# Altium integrated library Maxim Analog Filters.IntLib: 555 symbols (part 7 of 26)
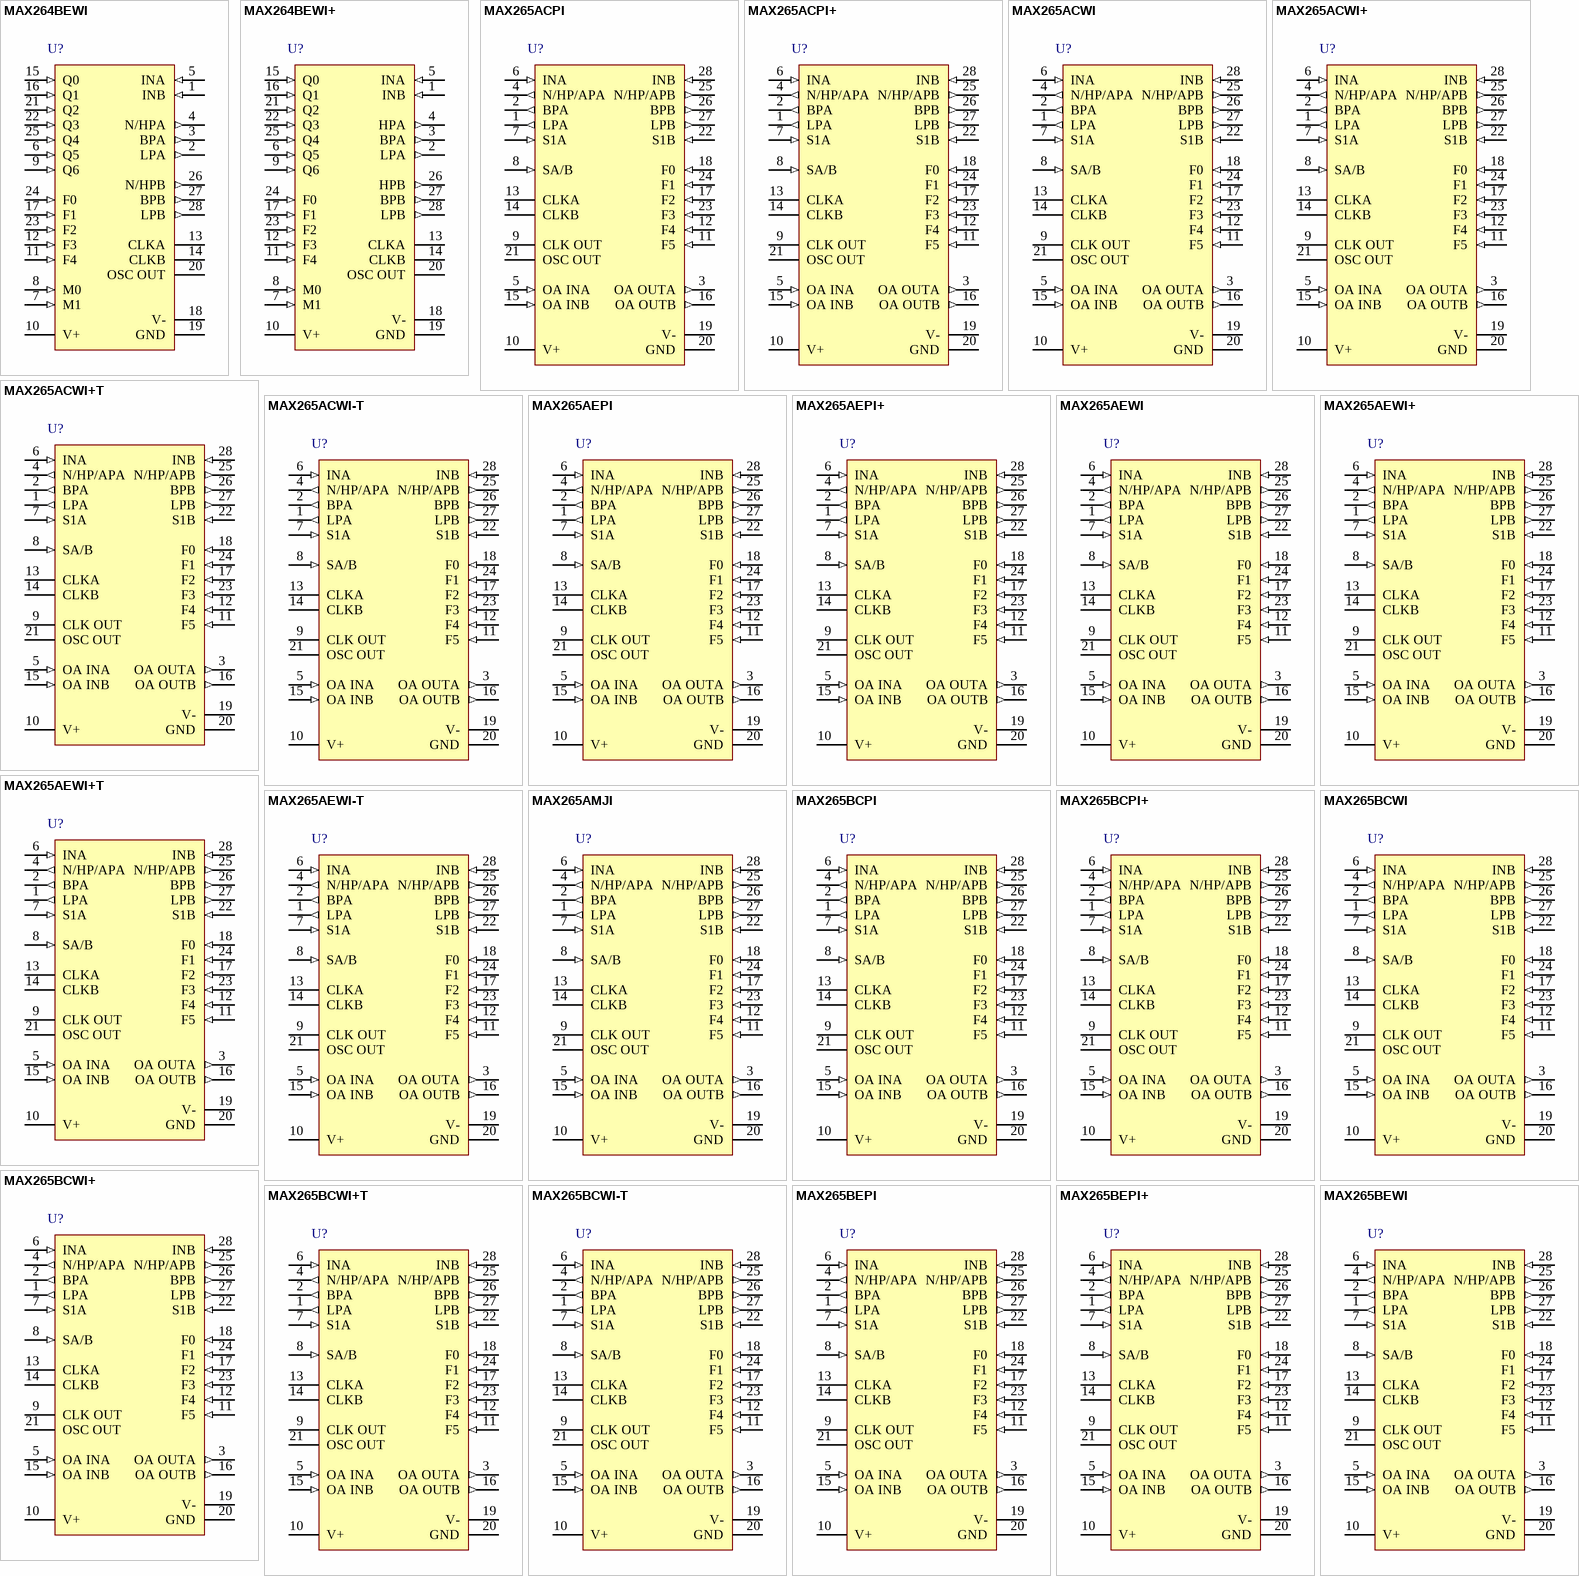
[diagram p23: symbols MAX264BEWI to MAX265BEWI]

## MAX265AEWI-T
designator U?
Switched Capacitor Filter, Pin Strap, Resistor Programmable, -40 to 85 degC, 28-Pin SOIC (W28-5), Tape and Reel; Generic Part Number: MAX265; PartNumber: MAX265AEWI-T; Filter Sections: 2; Filter Type: Universal; DatasheetVersion: Rev. 0; PackageVersion: Rev. F, 10/2012; PackageReference: W28-5; PackageDescription: 28-Pin Small-Outline IC, Wide (0.3in) (W28-5), Body 17.9 x 7.5 mm, Pitch 1.27 mm; Supplier 1: Mouser; Supplier Part Number 1: N/A; Filter Characteristic: Programmable; Filter Class: Switched Cap; Order Per Filter Section: 2; Packing: Tape and Reel; Program Method: Pin Strap, Resistor; Mounting Technology: Surface Mount; Code_JEDEC: MS013; ComponentLink1Description: Manufacturer URL; ComponentLink1URL: http://www.maximintegrated.com/; ComponentLink2Description: Datasheet; ComponentLink2URL: http://datasheets.maximintegrated.com/en/ds/MAX265-MAX266.pdf; ComponentLink3Description: Package Specification; ComponentLink3URL: http://pdfserv.maximintegrated.com/package_dwgs/21-0042.PDF
footprint MAXM-W28-5_N (SOIC, 28-Leads, Body 17.9x7.5mm, Pitch 1.27mm, IPC Medium Density)
footprint MAXM-W28-5_L (SOIC, 28-Leads, Body 17.9x7.5mm, Pitch 1.27mm, IPC High Density)
footprint MAXM-W28-5_M (SOIC, 28-Leads, Body 17.9x7.5mm, Pitch 1.27mm, IPC Low Density)
pins: 1 LPA (out) "Lowpass outputs", 2 BPA (out) "Bandpass outputs", 3 OA OUTA (out) "Output of op amps A", 4 N/HP/APA (out), 5 OA INA (in) "Inverting input of op amps A", 6 INA (in) "Filter input", 7 S1A (in) "Auxiliary input to summing node in A filter. It receives feedback signals in various filter modes.", 8 SA/B (in) "When SA/B is high, one filter summing node is tied to the LP output. When SA/B is low, the summing node is grounded. See Mode diagrams (Figures 5-20) for SA/B connections.", 9 CLK OUT "Clock Output for crystal and R-C oscillator operation.", 10 V+ (power) "Positive supply voltage", 11 F5 (in) "Programming input for fCLK/f0 ratio", 12 F4 (in) "Programming input for fCLK/f0 ratio", 13 CLKA "Input to the oscillator and clock input to section A. This clock is internally divided by 2.", 14 CLKB "Clock input to filter B. This clock is internally divided by 2.", 15 OA INB (in) "Inverting input of op amps B", 16 OA OUTB (out) "Output of op amps B", 17 F2 (in) "Programming input for fCLK/f0 ratio", 18 F0 (in) "Programming input for fCLK/f0 ratio", 19 V- (power) "Negative supply voltage", 20 GND (power) "Analog Ground. Connect to the system ground for +/- supplies or to mid-supply for single supply operation. GND should be well bypassed in single supply applications.", 21 OSC OUT "Connects to crystal or R-C for self-clocked operation.", 22 S1B (in) "Auxiliary input to summing node in B filter. It receives feedback signals in various filter modes.", 23 F3 (in) "Programming input for fCLK/f0 ratio", 24 F1 (in) "Programming input for fCLK/f0 ratio", 25 N/HP/APB (out), 26 BPB (out) "Bandpass outputs", 27 LPB (out) "Lowpass outputs", 28 INB (in) "Filter input"

## MAX265AMJI
designator U?
Switched Capacitor Filter, Pin Strap, Resistor Programmable, -55 to 125 degC, 28-Pin DIP (J28-2); Generic Part Number: MAX265; PartNumber: MAX265AMJI; Filter Sections: 2; Filter Type: Universal; DatasheetVersion: Rev. 0; PackageVersion: Rev. B, 11/2009; PackageReference: J28-2; PackageDescription: 28-Pin Ceramic Dual-In-Line, Wide (0.6in) (J28-2), Body 37.85 x 14.225 mm, Pitch 2.54 mm; Supplier 1: Mouser; Supplier Part Number 1: N/A; Filter Characteristic: Programmable; Filter Class: Switched Cap; Order Per Filter Section: 2; Program Method: Pin Strap, Resistor; Mounting Technology: Through Hole; ComponentLink1Description: Manufacturer URL; ComponentLink1URL: http://www.maximintegrated.com/; ComponentLink2Description: Datasheet; ComponentLink2URL: http://datasheets.maximintegrated.com/en/ds/MAX265-MAX266.pdf; ComponentLink3Description: Package Specification; ComponentLink3URL: http://pdfserv.maximintegrated.com/package_dwgs/21-0046.PDF
footprint MAXM-J28-2 (DIP, 28-Leads, Body 37.85x14.225mm, Pitch 2.54mm)
pins: 1 LPA (out) "Lowpass outputs", 2 BPA (out) "Bandpass outputs", 3 OA OUTA (out) "Output of op amps A", 4 N/HP/APA (out), 5 OA INA (in) "Inverting input of op amps A", 6 INA (in) "Filter input", 7 S1A (in) "Auxiliary input to summing node in A filter. It receives feedback signals in various filter modes.", 8 SA/B (in) "When SA/B is high, one filter summing node is tied to the LP output. When SA/B is low, the summing node is grounded. See Mode diagrams (Figures 5-20) for SA/B connections.", 9 CLK OUT "Clock Output for crystal and R-C oscillator operation.", 10 V+ (power) "Positive supply voltage", 11 F5 (in) "Programming input for fCLK/f0 ratio", 12 F4 (in) "Programming input for fCLK/f0 ratio", 13 CLKA "Input to the oscillator and clock input to section A. This clock is internally divided by 2.", 14 CLKB "Clock input to filter B. This clock is internally divided by 2.", 15 OA INB (in) "Inverting input of op amps B", 16 OA OUTB (out) "Output of op amps B", 17 F2 (in) "Programming input for fCLK/f0 ratio", 18 F0 (in) "Programming input for fCLK/f0 ratio", 19 V- (power) "Negative supply voltage", 20 GND (power) "Analog Ground. Connect to the system ground for +/- supplies or to mid-supply for single supply operation. GND should be well bypassed in single supply applications.", 21 OSC OUT "Connects to crystal or R-C for self-clocked operation.", 22 S1B (in) "Auxiliary input to summing node in B filter. It receives feedback signals in various filter modes.", 23 F3 (in) "Programming input for fCLK/f0 ratio", 24 F1 (in) "Programming input for fCLK/f0 ratio", 25 N/HP/APB (out), 26 BPB (out) "Bandpass outputs", 27 LPB (out) "Lowpass outputs", 28 INB (in) "Filter input"

## MAX265BCPI
designator U?
Switched Capacitor Filter, Pin Strap, Resistor Programmable, 0 to 70 degC, 28-Pin DIP (P28-5); Generic Part Number: MAX265; PartNumber: MAX265BCPI; Filter Sections: 2; Filter Type: Universal; DatasheetVersion: Rev. 0; PackageVersion: Rev. D, 04/2011; PackageReference: P28-5; PackageDescription: 28-Pin Plastic Dual-In-Line, Wide (0.6in) (P28-5), Body 36.83 x 13.975 mm, Pitch 2.54 mm; Supplier 1: Mouser; Supplier Part Number 1: N/A; Filter Characteristic: Programmable; Filter Class: Switched Cap; Order Per Filter Section: 2; Program Method: Pin Strap, Resistor; Mounting Technology: Through Hole; Code_JEDEC: MS011; ComponentLink1Description: Manufacturer URL; ComponentLink1URL: http://www.maximintegrated.com/; ComponentLink2Description: Datasheet; ComponentLink2URL: http://datasheets.maximintegrated.com/en/ds/MAX265-MAX266.pdf; ComponentLink3Description: Package Specification; ComponentLink3URL: http://pdfserv.maximintegrated.com/package_dwgs/21-0044.PDF
footprint MAXM-P28-5 (DIP, 28-Leads, Body 36.83x13.975mm, Pitch 2.54mm)
pins: 1 LPA (out) "Lowpass outputs", 2 BPA (out) "Bandpass outputs", 3 OA OUTA (out) "Output of op amps A", 4 N/HP/APA (out), 5 OA INA (in) "Inverting input of op amps A", 6 INA (in) "Filter input", 7 S1A (in) "Auxiliary input to summing node in A filter. It receives feedback signals in various filter modes.", 8 SA/B (in) "When SA/B is high, one filter summing node is tied to the LP output. When SA/B is low, the summing node is grounded. See Mode diagrams (Figures 5-20) for SA/B connections.", 9 CLK OUT "Clock Output for crystal and R-C oscillator operation.", 10 V+ (power) "Positive supply voltage", 11 F5 (in) "Programming input for fCLK/f0 ratio", 12 F4 (in) "Programming input for fCLK/f0 ratio", 13 CLKA "Input to the oscillator and clock input to section A. This clock is internally divided by 2.", 14 CLKB "Clock input to filter B. This clock is internally divided by 2.", 15 OA INB (in) "Inverting input of op amps B", 16 OA OUTB (out) "Output of op amps B", 17 F2 (in) "Programming input for fCLK/f0 ratio", 18 F0 (in) "Programming input for fCLK/f0 ratio", 19 V- (power) "Negative supply voltage", 20 GND (power) "Analog Ground. Connect to the system ground for +/- supplies or to mid-supply for single supply operation. GND should be well bypassed in single supply applications.", 21 OSC OUT "Connects to crystal or R-C for self-clocked operation.", 22 S1B (in) "Auxiliary input to summing node in B filter. It receives feedback signals in various filter modes.", 23 F3 (in) "Programming input for fCLK/f0 ratio", 24 F1 (in) "Programming input for fCLK/f0 ratio", 25 N/HP/APB (out), 26 BPB (out) "Bandpass outputs", 27 LPB (out) "Lowpass outputs", 28 INB (in) "Filter input"

## MAX265BCPI+
designator U?
Switched Capacitor Filter, Pin Strap, Resistor Programmable, 0 to 70 degC, 28-Pin DIP (P28+5), Pb-Free; Generic Part Number: MAX265; PartNumber: MAX265BCPI+; Filter Sections: 2; Filter Type: Universal; DatasheetVersion: Rev. 0; PackageVersion: Rev. D, 04/2011; PackageReference: P28+5; PackageDescription: 28-Pin Plastic Dual-In-Line, Wide (0.6in) (P28+5), Body 36.83 x 13.975 mm, Pitch 2.54 mm; Supplier 1: Digi-Key; Supplier Part Number 1: MAX265BCPI+-ND; Supplier 2: Mouser; Supplier Part Number 2: 700-MAX265BCPI; Filter Characteristic: Programmable; Filter Class: Switched Cap; Order Per Filter Section: 2; Program Method: Pin Strap, Resistor; RoHS: Pb-Free; Mounting Technology: Through Hole; Code_JEDEC: MSO11; ComponentLink1Description: Manufacturer URL; ComponentLink1URL: http://www.maximintegrated.com/; ComponentLink2Description: Datasheet; ComponentLink2URL: http://datasheets.maximintegrated.com/en/ds/MAX265-MAX266.pdf; ComponentLink3Description: Package Specification; ComponentLink3URL: http://pdfserv.maximintegrated.com/package_dwgs/21-0044.PDF
footprint MAXM-P28+5 (DIP, 28-Leads, Body 36.83x13.975mm, Pitch 2.54mm)
pins: 1 LPA (out) "Lowpass outputs", 2 BPA (out) "Bandpass outputs", 3 OA OUTA (out) "Output of op amps A", 4 N/HP/APA (out), 5 OA INA (in) "Inverting input of op amps A", 6 INA (in) "Filter input", 7 S1A (in) "Auxiliary input to summing node in A filter. It receives feedback signals in various filter modes.", 8 SA/B (in) "When SA/B is high, one filter summing node is tied to the LP output. When SA/B is low, the summing node is grounded. See Mode diagrams (Figures 5-20) for SA/B connections.", 9 CLK OUT "Clock Output for crystal and R-C oscillator operation.", 10 V+ (power) "Positive supply voltage", 11 F5 (in) "Programming input for fCLK/f0 ratio", 12 F4 (in) "Programming input for fCLK/f0 ratio", 13 CLKA "Input to the oscillator and clock input to section A. This clock is internally divided by 2.", 14 CLKB "Clock input to filter B. This clock is internally divided by 2.", 15 OA INB (in) "Inverting input of op amps B", 16 OA OUTB (out) "Output of op amps B", 17 F2 (in) "Programming input for fCLK/f0 ratio", 18 F0 (in) "Programming input for fCLK/f0 ratio", 19 V- (power) "Negative supply voltage", 20 GND (power) "Analog Ground. Connect to the system ground for +/- supplies or to mid-supply for single supply operation. GND should be well bypassed in single supply applications.", 21 OSC OUT "Connects to crystal or R-C for self-clocked operation.", 22 S1B (in) "Auxiliary input to summing node in B filter. It receives feedback signals in various filter modes.", 23 F3 (in) "Programming input for fCLK/f0 ratio", 24 F1 (in) "Programming input for fCLK/f0 ratio", 25 N/HP/APB (out), 26 BPB (out) "Bandpass outputs", 27 LPB (out) "Lowpass outputs", 28 INB (in) "Filter input"

## MAX265BCWI
designator U?
Switched Capacitor Filter, Pin Strap, Resistor Programmable, 0 to 70 degC, 28-Pin SOIC (W28-5); Generic Part Number: MAX265; PartNumber: MAX265BCWI; Filter Sections: 2; Filter Type: Universal; DatasheetVersion: Rev. 0; PackageVersion: Rev. F, 10/2012; PackageReference: W28-5; PackageDescription: 28-Pin Small-Outline IC, Wide (0.3in) (W28-5), Body 17.9 x 7.5 mm, Pitch 1.27 mm; Supplier 1: Mouser; Supplier Part Number 1: N/A; Filter Characteristic: Programmable; Filter Class: Switched Cap; Order Per Filter Section: 2; Program Method: Pin Strap, Resistor; Mounting Technology: Surface Mount; Code_JEDEC: MS013; ComponentLink1Description: Manufacturer URL; ComponentLink1URL: http://www.maximintegrated.com/; ComponentLink2Description: Datasheet; ComponentLink2URL: http://datasheets.maximintegrated.com/en/ds/MAX265-MAX266.pdf; ComponentLink3Description: Package Specification; ComponentLink3URL: http://pdfserv.maximintegrated.com/package_dwgs/21-0042.PDF
footprint MAXM-W28-5_N (SOIC, 28-Leads, Body 17.9x7.5mm, Pitch 1.27mm, IPC Medium Density)
footprint MAXM-W28-5_L (SOIC, 28-Leads, Body 17.9x7.5mm, Pitch 1.27mm, IPC High Density)
footprint MAXM-W28-5_M (SOIC, 28-Leads, Body 17.9x7.5mm, Pitch 1.27mm, IPC Low Density)
pins: 1 LPA (out) "Lowpass outputs", 2 BPA (out) "Bandpass outputs", 3 OA OUTA (out) "Output of op amps A", 4 N/HP/APA (out), 5 OA INA (in) "Inverting input of op amps A", 6 INA (in) "Filter input", 7 S1A (in) "Auxiliary input to summing node in A filter. It receives feedback signals in various filter modes.", 8 SA/B (in) "When SA/B is high, one filter summing node is tied to the LP output. When SA/B is low, the summing node is grounded. See Mode diagrams (Figures 5-20) for SA/B connections.", 9 CLK OUT "Clock Output for crystal and R-C oscillator operation.", 10 V+ (power) "Positive supply voltage", 11 F5 (in) "Programming input for fCLK/f0 ratio", 12 F4 (in) "Programming input for fCLK/f0 ratio", 13 CLKA "Input to the oscillator and clock input to section A. This clock is internally divided by 2.", 14 CLKB "Clock input to filter B. This clock is internally divided by 2.", 15 OA INB (in) "Inverting input of op amps B", 16 OA OUTB (out) "Output of op amps B", 17 F2 (in) "Programming input for fCLK/f0 ratio", 18 F0 (in) "Programming input for fCLK/f0 ratio", 19 V- (power) "Negative supply voltage", 20 GND (power) "Analog Ground. Connect to the system ground for +/- supplies or to mid-supply for single supply operation. GND should be well bypassed in single supply applications.", 21 OSC OUT "Connects to crystal or R-C for self-clocked operation.", 22 S1B (in) "Auxiliary input to summing node in B filter. It receives feedback signals in various filter modes.", 23 F3 (in) "Programming input for fCLK/f0 ratio", 24 F1 (in) "Programming input for fCLK/f0 ratio", 25 N/HP/APB (out), 26 BPB (out) "Bandpass outputs", 27 LPB (out) "Lowpass outputs", 28 INB (in) "Filter input"

## MAX265BCWI+
designator U?
Switched Capacitor Filter, Pin Strap, Resistor Programmable, 0 to 70 degC, 28-Pin SOIC (W28+5), Pb-Free; Generic Part Number: MAX265; PartNumber: MAX265BCWI+; Filter Sections: 2; Filter Type: Universal; DatasheetVersion: Rev. 0; PackageVersion: Rev. F, 10/2012; PackageReference: W28+5; PackageDescription: 28-Pin Small-Outline IC, Wide (0.3in) (W28+5), Body 17.9 x 7.5 mm, Pitch 1.27 mm; Supplier 1: Digi-Key; Supplier Part Number 1: MAX265BCWI+-ND; Supplier 2: Mouser; Supplier Part Number 2: 700-MAX265BCWI; Filter Characteristic: Programmable; Filter Class: Switched Cap; Order Per Filter Section: 2; Program Method: Pin Strap, Resistor; RoHS: Pb-Free; Mounting Technology: Surface Mount; Code_JEDEC: MS013; ComponentLink1Description: Manufacturer URL; ComponentLink1URL: http://www.maximintegrated.com/; ComponentLink2Description: Datasheet; ComponentLink2URL: http://datasheets.maximintegrated.com/en/ds/MAX265-MAX266.pdf; ComponentLink3Description: Package Specification; ComponentLink3URL: http://pdfserv.maximintegrated.com/package_dwgs/21-0042.PDF
footprint MAXM-W28+5_N (SOIC, 28-Leads, Body 17.9x7.5mm, Pitch 1.27mm, IPC Medium Density)
footprint MAXM-W28+5_L (SOIC, 28-Leads, Body 17.9x7.5mm, Pitch 1.27mm, IPC High Density)
footprint MAXM-W28+5_M (SOIC, 28-Leads, Body 17.9x7.5mm, Pitch 1.27mm, IPC Low Density)
pins: 1 LPA (out) "Lowpass outputs", 2 BPA (out) "Bandpass outputs", 3 OA OUTA (out) "Output of op amps A", 4 N/HP/APA (out), 5 OA INA (in) "Inverting input of op amps A", 6 INA (in) "Filter input", 7 S1A (in) "Auxiliary input to summing node in A filter. It receives feedback signals in various filter modes.", 8 SA/B (in) "When SA/B is high, one filter summing node is tied to the LP output. When SA/B is low, the summing node is grounded. See Mode diagrams (Figures 5-20) for SA/B connections.", 9 CLK OUT "Clock Output for crystal and R-C oscillator operation.", 10 V+ (power) "Positive supply voltage", 11 F5 (in) "Programming input for fCLK/f0 ratio", 12 F4 (in) "Programming input for fCLK/f0 ratio", 13 CLKA "Input to the oscillator and clock input to section A. This clock is internally divided by 2.", 14 CLKB "Clock input to filter B. This clock is internally divided by 2.", 15 OA INB (in) "Inverting input of op amps B", 16 OA OUTB (out) "Output of op amps B", 17 F2 (in) "Programming input for fCLK/f0 ratio", 18 F0 (in) "Programming input for fCLK/f0 ratio", 19 V- (power) "Negative supply voltage", 20 GND (power) "Analog Ground. Connect to the system ground for +/- supplies or to mid-supply for single supply operation. GND should be well bypassed in single supply applications.", 21 OSC OUT "Connects to crystal or R-C for self-clocked operation.", 22 S1B (in) "Auxiliary input to summing node in B filter. It receives feedback signals in various filter modes.", 23 F3 (in) "Programming input for fCLK/f0 ratio", 24 F1 (in) "Programming input for fCLK/f0 ratio", 25 N/HP/APB (out), 26 BPB (out) "Bandpass outputs", 27 LPB (out) "Lowpass outputs", 28 INB (in) "Filter input"

## MAX265BCWI+T
designator U?
Universal Switched Capacitor Filter, Pin Strap, Resistor Programmable, 0 to 70 degC, 28-Pin SOIC (W28+5), Pb-Free, Tape and Reel; Generic Part Number: MAX265; PartNumber: MAX265BCWI+T; Filter Sections: 2; DatasheetVersion: Rev. 0; PackageVersion: Rev. F, 10/2012; PackageReference: W28+5; PackageDescription: 28-Pin Small-Outline IC, Wide (0.3in) (W28+5), Body 17.9 x 7.5 mm, Pitch 1.27 mm; Supplier 1: Digi-Key; Supplier Part Number 1: MAX265BCWI+T-ND; Supplier 2: Mouser; Supplier Part Number 2: 700-MAX265BCWIT; Filter Characteristic: Programmable; Filter Class: Switched Cap; Filter Type: Universal; Order Per Filter Section: 2; Packing: Tape and Reel; Program Method: Pin Strap, Resistor; RoHS: Pb-Free; Mounting Technology: Surface Mount; Code_JEDEC: MS013; ComponentLink1Description: Manufacturer URL; ComponentLink1URL: http://www.maximintegrated.com/; ComponentLink2Description: Datasheet; ComponentLink2URL: http://datasheets.maximintegrated.com/en/ds/MAX265-MAX266.pdf; ComponentLink3Description: Package Specification; ComponentLink3URL: http://pdfserv.maximintegrated.com/package_dwgs/21-0042.PDF
footprint MAXM-W28+5_N (SOIC, 28-Leads, Body 17.9x7.5mm, Pitch 1.27mm, IPC Medium Density)
footprint MAXM-W28+5_L (SOIC, 28-Leads, Body 17.9x7.5mm, Pitch 1.27mm, IPC High Density)
footprint MAXM-W28+5_M (SOIC, 28-Leads, Body 17.9x7.5mm, Pitch 1.27mm, IPC Low Density)
pins: 1 LPA (out) "Lowpass outputs", 2 BPA (out) "Bandpass outputs", 3 OA OUTA (out) "Output of op amps A", 4 N/HP/APA (out), 5 OA INA (in) "Inverting input of op amps A", 6 INA (in) "Filter input", 7 S1A (in) "Auxiliary input to summing node in A filter. It receives feedback signals in various filter modes.", 8 SA/B (in) "When SA/B is high, one filter summing node is tied to the LP output. When SA/B is low, the summing node is grounded. See Mode diagrams (Figures 5-20) for SA/B connections.", 9 CLK OUT "Clock Output for crystal and R-C oscillator operation.", 10 V+ (power) "Positive supply voltage", 11 F5 (in) "Programming input for fCLK/f0 ratio", 12 F4 (in) "Programming input for fCLK/f0 ratio", 13 CLKA "Input to the oscillator and clock input to section A. This clock is internally divided by 2.", 14 CLKB "Clock input to filter B. This clock is internally divided by 2.", 15 OA INB (in) "Inverting input of op amps B", 16 OA OUTB (out) "Output of op amps B", 17 F2 (in) "Programming input for fCLK/f0 ratio", 18 F0 (in) "Programming input for fCLK/f0 ratio", 19 V- (power) "Negative supply voltage", 20 GND (power) "Analog Ground. Connect to the system ground for +/- supplies or to mid-supply for single supply operation. GND should be well bypassed in single supply applications.", 21 OSC OUT "Connects to crystal or R-C for self-clocked operation.", 22 S1B (in) "Auxiliary input to summing node in B filter. It receives feedback signals in various filter modes.", 23 F3 (in) "Programming input for fCLK/f0 ratio", 24 F1 (in) "Programming input for fCLK/f0 ratio", 25 N/HP/APB (out), 26 BPB (out) "Bandpass outputs", 27 LPB (out) "Lowpass outputs", 28 INB (in) "Filter input"

## MAX265BCWI-T
designator U?
Universal Switched Capacitor Filter, Pin Strap, Resistor Programmable, 0 to 70 degC, 28-Pin SOIC (W28-5), Tape and Reel; Generic Part Number: MAX265; PartNumber: MAX265BCWI-T; Filter Sections: 2; DatasheetVersion: Rev. 0; PackageVersion: Rev. F, 10/2012; PackageReference: W28-5; PackageDescription: 28-Pin Small-Outline IC, Wide (0.3in) (W28-5), Body 17.9 x 7.5 mm, Pitch 1.27 mm; Supplier 1: Mouser; Supplier Part Number 1: N/A; Filter Characteristic: Programmable; Filter Class: Switched Cap; Filter Type: Universal; Order Per Filter Section: 2; Packing: Tape and Reel; Program Method: Pin Strap, Resistor; Mounting Technology: Surface Mount; Code_JEDEC: MS013; ComponentLink1Description: Manufacturer URL; ComponentLink1URL: http://www.maximintegrated.com/; ComponentLink2Description: Datasheet; ComponentLink2URL: http://datasheets.maximintegrated.com/en/ds/MAX265-MAX266.pdf; ComponentLink3Description: Package Specification; ComponentLink3URL: http://pdfserv.maximintegrated.com/package_dwgs/21-0042.PDF
footprint MAXM-W28-5_N (SOIC, 28-Leads, Body 17.9x7.5mm, Pitch 1.27mm, IPC Medium Density)
footprint MAXM-W28-5_L (SOIC, 28-Leads, Body 17.9x7.5mm, Pitch 1.27mm, IPC High Density)
footprint MAXM-W28-5_M (SOIC, 28-Leads, Body 17.9x7.5mm, Pitch 1.27mm, IPC Low Density)
pins: 1 LPA (out) "Lowpass outputs", 2 BPA (out) "Bandpass outputs", 3 OA OUTA (out) "Output of op amps A", 4 N/HP/APA (out), 5 OA INA (in) "Inverting input of op amps A", 6 INA (in) "Filter input", 7 S1A (in) "Auxiliary input to summing node in A filter. It receives feedback signals in various filter modes.", 8 SA/B (in) "When SA/B is high, one filter summing node is tied to the LP output. When SA/B is low, the summing node is grounded. See Mode diagrams (Figures 5-20) for SA/B connections.", 9 CLK OUT "Clock Output for crystal and R-C oscillator operation.", 10 V+ (power) "Positive supply voltage", 11 F5 (in) "Programming input for fCLK/f0 ratio", 12 F4 (in) "Programming input for fCLK/f0 ratio", 13 CLKA "Input to the oscillator and clock input to section A. This clock is internally divided by 2.", 14 CLKB "Clock input to filter B. This clock is internally divided by 2.", 15 OA INB (in) "Inverting input of op amps B", 16 OA OUTB (out) "Output of op amps B", 17 F2 (in) "Programming input for fCLK/f0 ratio", 18 F0 (in) "Programming input for fCLK/f0 ratio", 19 V- (power) "Negative supply voltage", 20 GND (power) "Analog Ground. Connect to the system ground for +/- supplies or to mid-supply for single supply operation. GND should be well bypassed in single supply applications.", 21 OSC OUT "Connects to crystal or R-C for self-clocked operation.", 22 S1B (in) "Auxiliary input to summing node in B filter. It receives feedback signals in various filter modes.", 23 F3 (in) "Programming input for fCLK/f0 ratio", 24 F1 (in) "Programming input for fCLK/f0 ratio", 25 N/HP/APB (out), 26 BPB (out) "Bandpass outputs", 27 LPB (out) "Lowpass outputs", 28 INB (in) "Filter input"

## MAX265BEPI
designator U?
Switched Capacitor Filter, Pin Strap, Resistor Programmable, -40 to 85 degC, 28-Pin DIP (P28-5); Generic Part Number: MAX265; PartNumber: MAX265BEPI; Filter Sections: 2; Filter Type: Universal; DatasheetVersion: Rev. 0; PackageVersion: Rev. D, 04/2011; PackageReference: P28-5; PackageDescription: 28-Pin Plastic Dual-In-Line, Wide (0.6in) (P28-5), Body 36.83 x 13.975 mm, Pitch 2.54 mm; Supplier 1: Mouser; Supplier Part Number 1: N/A; Filter Characteristic: Programmable; Filter Class: Switched Cap; Order Per Filter Section: 2; Program Method: Pin Strap, Resistor; Mounting Technology: Through Hole; Code_JEDEC: MS011; ComponentLink1Description: Manufacturer URL; ComponentLink1URL: http://www.maximintegrated.com/; ComponentLink2Description: Datasheet; ComponentLink2URL: http://datasheets.maximintegrated.com/en/ds/MAX265-MAX266.pdf; ComponentLink3Description: Package Specification; ComponentLink3URL: http://pdfserv.maximintegrated.com/package_dwgs/21-0044.PDF
footprint MAXM-P28-5 (DIP, 28-Leads, Body 36.83x13.975mm, Pitch 2.54mm)
pins: 1 LPA (out) "Lowpass outputs", 2 BPA (out) "Bandpass outputs", 3 OA OUTA (out) "Output of op amps A", 4 N/HP/APA (out), 5 OA INA (in) "Inverting input of op amps A", 6 INA (in) "Filter input", 7 S1A (in) "Auxiliary input to summing node in A filter. It receives feedback signals in various filter modes.", 8 SA/B (in) "When SA/B is high, one filter summing node is tied to the LP output. When SA/B is low, the summing node is grounded. See Mode diagrams (Figures 5-20) for SA/B connections.", 9 CLK OUT "Clock Output for crystal and R-C oscillator operation.", 10 V+ (power) "Positive supply voltage", 11 F5 (in) "Programming input for fCLK/f0 ratio", 12 F4 (in) "Programming input for fCLK/f0 ratio", 13 CLKA "Input to the oscillator and clock input to section A. This clock is internally divided by 2.", 14 CLKB "Clock input to filter B. This clock is internally divided by 2.", 15 OA INB (in) "Inverting input of op amps B", 16 OA OUTB (out) "Output of op amps B", 17 F2 (in) "Programming input for fCLK/f0 ratio", 18 F0 (in) "Programming input for fCLK/f0 ratio", 19 V- (power) "Negative supply voltage", 20 GND (power) "Analog Ground. Connect to the system ground for +/- supplies or to mid-supply for single supply operation. GND should be well bypassed in single supply applications.", 21 OSC OUT "Connects to crystal or R-C for self-clocked operation.", 22 S1B (in) "Auxiliary input to summing node in B filter. It receives feedback signals in various filter modes.", 23 F3 (in) "Programming input for fCLK/f0 ratio", 24 F1 (in) "Programming input for fCLK/f0 ratio", 25 N/HP/APB (out), 26 BPB (out) "Bandpass outputs", 27 LPB (out) "Lowpass outputs", 28 INB (in) "Filter input"

## MAX265BEPI+
designator U?
Switched Capacitor Filter, Pin Strap, Resistor Programmable, -40 to 85 degC, 28-Pin DIP (P28+5), Pb-Free; Generic Part Number: MAX265; PartNumber: MAX265BEPI+; Filter Sections: 2; Filter Type: Universal; DatasheetVersion: Rev. 0; PackageVersion: Rev. D, 04/2011; PackageReference: P28+5; PackageDescription: 28-Pin Plastic Dual-In-Line, Wide (0.6in) (P28+5), Body 36.83 x 13.975 mm, Pitch 2.54 mm; Supplier 1: Digi-Key; Supplier Part Number 1: MAX265BEPI+-ND; Supplier 2: Mouser; Supplier Part Number 2: 700-MAX265BEPI; Filter Characteristic: Programmable; Filter Class: Switched Cap; Order Per Filter Section: 2; Program Method: Pin Strap, Resistor; RoHS: Pb-Free; Mounting Technology: Through Hole; Code_JEDEC: MSO11; ComponentLink1Description: Manufacturer URL; ComponentLink1URL: http://www.maximintegrated.com/; ComponentLink2Description: Datasheet; ComponentLink2URL: http://datasheets.maximintegrated.com/en/ds/MAX265-MAX266.pdf; ComponentLink3Description: Package Specification; ComponentLink3URL: http://pdfserv.maximintegrated.com/package_dwgs/21-0044.PDF
footprint MAXM-P28+5 (DIP, 28-Leads, Body 36.83x13.975mm, Pitch 2.54mm)
pins: 1 LPA (out) "Lowpass outputs", 2 BPA (out) "Bandpass outputs", 3 OA OUTA (out) "Output of op amps A", 4 N/HP/APA (out), 5 OA INA (in) "Inverting input of op amps A", 6 INA (in) "Filter input", 7 S1A (in) "Auxiliary input to summing node in A filter. It receives feedback signals in various filter modes.", 8 SA/B (in) "When SA/B is high, one filter summing node is tied to the LP output. When SA/B is low, the summing node is grounded. See Mode diagrams (Figures 5-20) for SA/B connections.", 9 CLK OUT "Clock Output for crystal and R-C oscillator operation.", 10 V+ (power) "Positive supply voltage", 11 F5 (in) "Programming input for fCLK/f0 ratio", 12 F4 (in) "Programming input for fCLK/f0 ratio", 13 CLKA "Input to the oscillator and clock input to section A. This clock is internally divided by 2.", 14 CLKB "Clock input to filter B. This clock is internally divided by 2.", 15 OA INB (in) "Inverting input of op amps B", 16 OA OUTB (out) "Output of op amps B", 17 F2 (in) "Programming input for fCLK/f0 ratio", 18 F0 (in) "Programming input for fCLK/f0 ratio", 19 V- (power) "Negative supply voltage", 20 GND (power) "Analog Ground. Connect to the system ground for +/- supplies or to mid-supply for single supply operation. GND should be well bypassed in single supply applications.", 21 OSC OUT "Connects to crystal or R-C for self-clocked operation.", 22 S1B (in) "Auxiliary input to summing node in B filter. It receives feedback signals in various filter modes.", 23 F3 (in) "Programming input for fCLK/f0 ratio", 24 F1 (in) "Programming input for fCLK/f0 ratio", 25 N/HP/APB (out), 26 BPB (out) "Bandpass outputs", 27 LPB (out) "Lowpass outputs", 28 INB (in) "Filter input"

## MAX265BEWI
designator U?
Switched Capacitor Filter, Pin Strap, Resistor Programmable, -40 to 85 degC, 28-Pin SOIC (W28-5); Generic Part Number: MAX265; PartNumber: MAX265BEWI; Filter Sections: 2; Filter Type: Universal; DatasheetVersion: Rev. 0; PackageVersion: Rev. F, 10/2012; PackageReference: W28-5; PackageDescription: 28-Pin Small-Outline IC, Wide (0.3in) (W28-5), Body 17.9 x 7.5 mm, Pitch 1.27 mm; Supplier 1: Mouser; Supplier Part Number 1: N/A; Filter Characteristic: Programmable; Filter Class: Switched Cap; Order Per Filter Section: 2; Program Method: Pin Strap, Resistor; Mounting Technology: Surface Mount; Code_JEDEC: MS013; ComponentLink1Description: Manufacturer URL; ComponentLink1URL: http://www.maximintegrated.com/; ComponentLink2Description: Datasheet; ComponentLink2URL: http://datasheets.maximintegrated.com/en/ds/MAX265-MAX266.pdf; ComponentLink3Description: Package Specification; ComponentLink3URL: http://pdfserv.maximintegrated.com/package_dwgs/21-0042.PDF
footprint MAXM-W28-5_N (SOIC, 28-Leads, Body 17.9x7.5mm, Pitch 1.27mm, IPC Medium Density)
footprint MAXM-W28-5_L (SOIC, 28-Leads, Body 17.9x7.5mm, Pitch 1.27mm, IPC High Density)
footprint MAXM-W28-5_M (SOIC, 28-Leads, Body 17.9x7.5mm, Pitch 1.27mm, IPC Low Density)
pins: 1 LPA (out) "Lowpass outputs", 2 BPA (out) "Bandpass outputs", 3 OA OUTA (out) "Output of op amps A", 4 N/HP/APA (out), 5 OA INA (in) "Inverting input of op amps A", 6 INA (in) "Filter input", 7 S1A (in) "Auxiliary input to summing node in A filter. It receives feedback signals in various filter modes.", 8 SA/B (in) "When SA/B is high, one filter summing node is tied to the LP output. When SA/B is low, the summing node is grounded. See Mode diagrams (Figures 5-20) for SA/B connections.", 9 CLK OUT "Clock Output for crystal and R-C oscillator operation.", 10 V+ (power) "Positive supply voltage", 11 F5 (in) "Programming input for fCLK/f0 ratio", 12 F4 (in) "Programming input for fCLK/f0 ratio", 13 CLKA "Input to the oscillator and clock input to section A. This clock is internally divided by 2.", 14 CLKB "Clock input to filter B. This clock is internally divided by 2.", 15 OA INB (in) "Inverting input of op amps B", 16 OA OUTB (out) "Output of op amps B", 17 F2 (in) "Programming input for fCLK/f0 ratio", 18 F0 (in) "Programming input for fCLK/f0 ratio", 19 V- (power) "Negative supply voltage", 20 GND (power) "Analog Ground. Connect to the system ground for +/- supplies or to mid-supply for single supply operation. GND should be well bypassed in single supply applications.", 21 OSC OUT "Connects to crystal or R-C for self-clocked operation.", 22 S1B (in) "Auxiliary input to summing node in B filter. It receives feedback signals in various filter modes.", 23 F3 (in) "Programming input for fCLK/f0 ratio", 24 F1 (in) "Programming input for fCLK/f0 ratio", 25 N/HP/APB (out), 26 BPB (out) "Bandpass outputs", 27 LPB (out) "Lowpass outputs", 28 INB (in) "Filter input"

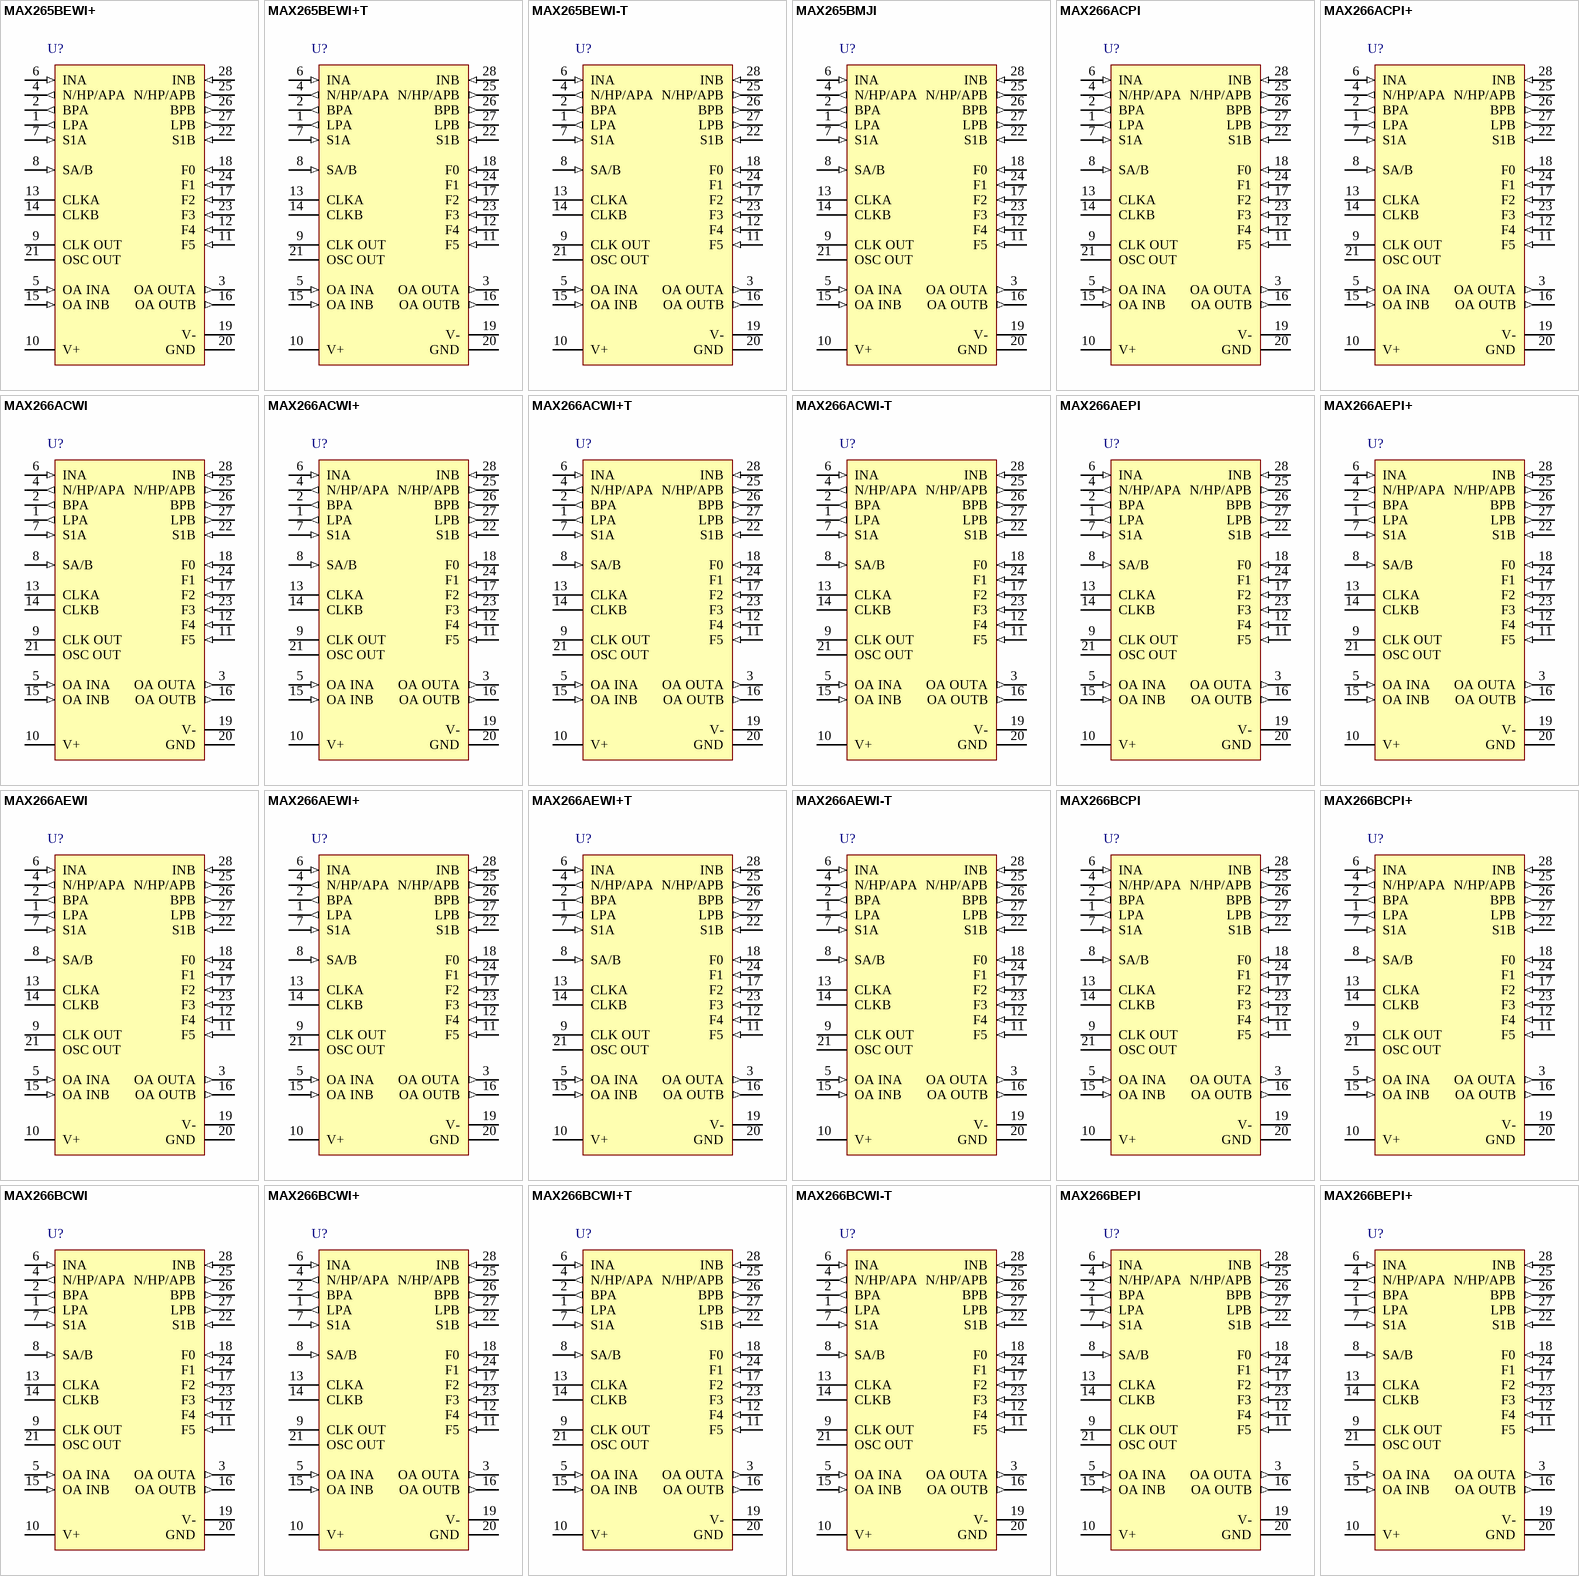
[diagram p5: symbols MAX265BEWI+ to MAX266BEPI+]

## MAX265BEWI+
designator U?
Switched Capacitor Filter, Pin Strap, Resistor Programmable, -40 to 85 degC, 28-Pin SOIC (W28+5), Pb-Free; Generic Part Number: MAX265; PartNumber: MAX265BEWI+; Filter Sections: 2; Filter Type: Universal; DatasheetVersion: Rev. 0; PackageVersion: Rev. F, 10/2012; PackageReference: W28+5; PackageDescription: 28-Pin Small-Outline IC, Wide (0.3in) (W28+5), Body 17.9 x 7.5 mm, Pitch 1.27 mm; Supplier 1: Digi-Key; Supplier Part Number 1: MAX265BEWI+-ND; Supplier 2: Mouser; Supplier Part Number 2: 700-MAX265BEWI; Filter Characteristic: Programmable; Filter Class: Switched Cap; Order Per Filter Section: 2; Program Method: Pin Strap, Resistor; RoHS: Pb-Free; Mounting Technology: Surface Mount; Code_JEDEC: MS013; ComponentLink1Description: Manufacturer URL; ComponentLink1URL: http://www.maximintegrated.com/; ComponentLink2Description: Datasheet; ComponentLink2URL: http://datasheets.maximintegrated.com/en/ds/MAX265-MAX266.pdf; ComponentLink3Description: Package Specification; ComponentLink3URL: http://pdfserv.maximintegrated.com/package_dwgs/21-0042.PDF
footprint MAXM-W28+5_N (SOIC, 28-Leads, Body 17.9x7.5mm, Pitch 1.27mm, IPC Medium Density)
footprint MAXM-W28+5_L (SOIC, 28-Leads, Body 17.9x7.5mm, Pitch 1.27mm, IPC High Density)
footprint MAXM-W28+5_M (SOIC, 28-Leads, Body 17.9x7.5mm, Pitch 1.27mm, IPC Low Density)
pins: 1 LPA (out) "Lowpass outputs", 2 BPA (out) "Bandpass outputs", 3 OA OUTA (out) "Output of op amps A", 4 N/HP/APA (out), 5 OA INA (in) "Inverting input of op amps A", 6 INA (in) "Filter input", 7 S1A (in) "Auxiliary input to summing node in A filter. It receives feedback signals in various filter modes.", 8 SA/B (in) "When SA/B is high, one filter summing node is tied to the LP output. When SA/B is low, the summing node is grounded. See Mode diagrams (Figures 5-20) for SA/B connections.", 9 CLK OUT "Clock Output for crystal and R-C oscillator operation.", 10 V+ (power) "Positive supply voltage", 11 F5 (in) "Programming input for fCLK/f0 ratio", 12 F4 (in) "Programming input for fCLK/f0 ratio", 13 CLKA "Input to the oscillator and clock input to section A. This clock is internally divided by 2.", 14 CLKB "Clock input to filter B. This clock is internally divided by 2.", 15 OA INB (in) "Inverting input of op amps B", 16 OA OUTB (out) "Output of op amps B", 17 F2 (in) "Programming input for fCLK/f0 ratio", 18 F0 (in) "Programming input for fCLK/f0 ratio", 19 V- (power) "Negative supply voltage", 20 GND (power) "Analog Ground. Connect to the system ground for +/- supplies or to mid-supply for single supply operation. GND should be well bypassed in single supply applications.", 21 OSC OUT "Connects to crystal or R-C for self-clocked operation.", 22 S1B (in) "Auxiliary input to summing node in B filter. It receives feedback signals in various filter modes.", 23 F3 (in) "Programming input for fCLK/f0 ratio", 24 F1 (in) "Programming input for fCLK/f0 ratio", 25 N/HP/APB (out), 26 BPB (out) "Bandpass outputs", 27 LPB (out) "Lowpass outputs", 28 INB (in) "Filter input"

## MAX265BEWI+T
designator U?
Universal Switched Capacitor Filter, Pin Strap, Resistor Programmable, -40 to 85 degC, 28-Pin SOIC (W28+5), Pb-Free, Tape and Reel; Generic Part Number: MAX265; PartNumber: MAX265BEWI+T; Filter Sections: 2; DatasheetVersion: Rev. 0; PackageVersion: Rev. F, 10/2012; PackageReference: W28+5; PackageDescription: 28-Pin Small-Outline IC, Wide (0.3in) (W28+5), Body 17.9 x 7.5 mm, Pitch 1.27 mm; Supplier 1: Digi-Key; Supplier Part Number 1: MAX265BEWI+T-ND; Supplier 2: Mouser; Supplier Part Number 2: 700-MAX265BEWIT; Filter Characteristic: Programmable; Filter Class: Switched Cap; Filter Type: Universal; Order Per Filter Section: 2; Packing: Tape and Reel; Program Method: Pin Strap, Resistor; RoHS: Pb-Free; Mounting Technology: Surface Mount; Code_JEDEC: MS013; ComponentLink1Description: Manufacturer URL; ComponentLink1URL: http://www.maximintegrated.com/; ComponentLink2Description: Datasheet; ComponentLink2URL: http://datasheets.maximintegrated.com/en/ds/MAX265-MAX266.pdf; ComponentLink3Description: Package Specification; ComponentLink3URL: http://pdfserv.maximintegrated.com/package_dwgs/21-0042.PDF
footprint MAXM-W28+5_N (SOIC, 28-Leads, Body 17.9x7.5mm, Pitch 1.27mm, IPC Medium Density)
footprint MAXM-W28+5_L (SOIC, 28-Leads, Body 17.9x7.5mm, Pitch 1.27mm, IPC High Density)
footprint MAXM-W28+5_M (SOIC, 28-Leads, Body 17.9x7.5mm, Pitch 1.27mm, IPC Low Density)
pins: 1 LPA (out) "Lowpass outputs", 2 BPA (out) "Bandpass outputs", 3 OA OUTA (out) "Output of op amps A", 4 N/HP/APA (out), 5 OA INA (in) "Inverting input of op amps A", 6 INA (in) "Filter input", 7 S1A (in) "Auxiliary input to summing node in A filter. It receives feedback signals in various filter modes.", 8 SA/B (in) "When SA/B is high, one filter summing node is tied to the LP output. When SA/B is low, the summing node is grounded. See Mode diagrams (Figures 5-20) for SA/B connections.", 9 CLK OUT "Clock Output for crystal and R-C oscillator operation.", 10 V+ (power) "Positive supply voltage", 11 F5 (in) "Programming input for fCLK/f0 ratio", 12 F4 (in) "Programming input for fCLK/f0 ratio", 13 CLKA "Input to the oscillator and clock input to section A. This clock is internally divided by 2.", 14 CLKB "Clock input to filter B. This clock is internally divided by 2.", 15 OA INB (in) "Inverting input of op amps B", 16 OA OUTB (out) "Output of op amps B", 17 F2 (in) "Programming input for fCLK/f0 ratio", 18 F0 (in) "Programming input for fCLK/f0 ratio", 19 V- (power) "Negative supply voltage", 20 GND (power) "Analog Ground. Connect to the system ground for +/- supplies or to mid-supply for single supply operation. GND should be well bypassed in single supply applications.", 21 OSC OUT "Connects to crystal or R-C for self-clocked operation.", 22 S1B (in) "Auxiliary input to summing node in B filter. It receives feedback signals in various filter modes.", 23 F3 (in) "Programming input for fCLK/f0 ratio", 24 F1 (in) "Programming input for fCLK/f0 ratio", 25 N/HP/APB (out), 26 BPB (out) "Bandpass outputs", 27 LPB (out) "Lowpass outputs", 28 INB (in) "Filter input"

## MAX265BEWI-T
designator U?
Universal Switched Capacitor Filter, Pin Strap, Resistor Programmable, -40 to 85 degC, 28-Pin SOIC (W28-5), Tape and Reel; Generic Part Number: MAX265; PartNumber: MAX265BEWI-T; Filter Sections: 2; DatasheetVersion: Rev. 0; PackageVersion: Rev. F, 10/2012; PackageReference: W28-5; PackageDescription: 28-Pin Small-Outline IC, Wide (0.3in) (W28-5), Body 17.9 x 7.5 mm, Pitch 1.27 mm; Supplier 1: Mouser; Supplier Part Number 1: N/A; Filter Characteristic: Programmable; Filter Class: Switched Cap; Filter Type: Universal; Order Per Filter Section: 2; Packing: Tape and Reel; Program Method: Pin Strap, Resistor; Mounting Technology: Surface Mount; Code_JEDEC: MS013; ComponentLink1Description: Manufacturer URL; ComponentLink1URL: http://www.maximintegrated.com/; ComponentLink2Description: Datasheet; ComponentLink2URL: http://datasheets.maximintegrated.com/en/ds/MAX265-MAX266.pdf; ComponentLink3Description: Package Specification; ComponentLink3URL: http://pdfserv.maximintegrated.com/package_dwgs/21-0042.PDF
footprint MAXM-W28-5_N (SOIC, 28-Leads, Body 17.9x7.5mm, Pitch 1.27mm, IPC Medium Density)
footprint MAXM-W28-5_L (SOIC, 28-Leads, Body 17.9x7.5mm, Pitch 1.27mm, IPC High Density)
footprint MAXM-W28-5_M (SOIC, 28-Leads, Body 17.9x7.5mm, Pitch 1.27mm, IPC Low Density)
pins: 1 LPA (out) "Lowpass outputs", 2 BPA (out) "Bandpass outputs", 3 OA OUTA (out) "Output of op amps A", 4 N/HP/APA (out), 5 OA INA (in) "Inverting input of op amps A", 6 INA (in) "Filter input", 7 S1A (in) "Auxiliary input to summing node in A filter. It receives feedback signals in various filter modes.", 8 SA/B (in) "When SA/B is high, one filter summing node is tied to the LP output. When SA/B is low, the summing node is grounded. See Mode diagrams (Figures 5-20) for SA/B connections.", 9 CLK OUT "Clock Output for crystal and R-C oscillator operation.", 10 V+ (power) "Positive supply voltage", 11 F5 (in) "Programming input for fCLK/f0 ratio", 12 F4 (in) "Programming input for fCLK/f0 ratio", 13 CLKA "Input to the oscillator and clock input to section A. This clock is internally divided by 2.", 14 CLKB "Clock input to filter B. This clock is internally divided by 2.", 15 OA INB (in) "Inverting input of op amps B", 16 OA OUTB (out) "Output of op amps B", 17 F2 (in) "Programming input for fCLK/f0 ratio", 18 F0 (in) "Programming input for fCLK/f0 ratio", 19 V- (power) "Negative supply voltage", 20 GND (power) "Analog Ground. Connect to the system ground for +/- supplies or to mid-supply for single supply operation. GND should be well bypassed in single supply applications.", 21 OSC OUT "Connects to crystal or R-C for self-clocked operation.", 22 S1B (in) "Auxiliary input to summing node in B filter. It receives feedback signals in various filter modes.", 23 F3 (in) "Programming input for fCLK/f0 ratio", 24 F1 (in) "Programming input for fCLK/f0 ratio", 25 N/HP/APB (out), 26 BPB (out) "Bandpass outputs", 27 LPB (out) "Lowpass outputs", 28 INB (in) "Filter input"

## MAX265BMJI
designator U?
Switched Capacitor Filter, Pin Strap, Resistor Programmable, -55 to 125 degC, 28-Pin DIP (J28-2); Generic Part Number: MAX265; PartNumber: MAX265BMJI; Filter Sections: 2; Filter Type: Universal; DatasheetVersion: Rev. 0; PackageVersion: Rev. B, 11/2009; PackageReference: J28-2; PackageDescription: 28-Pin Ceramic Dual-In-Line, Wide (0.6in) (J28-2), Body 37.85 x 14.225 mm, Pitch 2.54 mm; Supplier 1: Mouser; Supplier Part Number 1: N/A; Filter Characteristic: Programmable; Filter Class: Switched Cap; Order Per Filter Section: 2; Program Method: Pin Strap, Resistor; Mounting Technology: Through Hole; ComponentLink1Description: Manufacturer URL; ComponentLink1URL: http://www.maximintegrated.com/; ComponentLink2Description: Datasheet; ComponentLink2URL: http://datasheets.maximintegrated.com/en/ds/MAX265-MAX266.pdf; ComponentLink3Description: Package Specification; ComponentLink3URL: http://pdfserv.maximintegrated.com/package_dwgs/21-0046.PDF
footprint MAXM-J28-2 (DIP, 28-Leads, Body 37.85x14.225mm, Pitch 2.54mm)
pins: 1 LPA (out) "Lowpass outputs", 2 BPA (out) "Bandpass outputs", 3 OA OUTA (out) "Output of op amps A", 4 N/HP/APA (out), 5 OA INA (in) "Inverting input of op amps A", 6 INA (in) "Filter input", 7 S1A (in) "Auxiliary input to summing node in A filter. It receives feedback signals in various filter modes.", 8 SA/B (in) "When SA/B is high, one filter summing node is tied to the LP output. When SA/B is low, the summing node is grounded. See Mode diagrams (Figures 5-20) for SA/B connections.", 9 CLK OUT "Clock Output for crystal and R-C oscillator operation.", 10 V+ (power) "Positive supply voltage", 11 F5 (in) "Programming input for fCLK/f0 ratio", 12 F4 (in) "Programming input for fCLK/f0 ratio", 13 CLKA "Input to the oscillator and clock input to section A. This clock is internally divided by 2.", 14 CLKB "Clock input to filter B. This clock is internally divided by 2.", 15 OA INB (in) "Inverting input of op amps B", 16 OA OUTB (out) "Output of op amps B", 17 F2 (in) "Programming input for fCLK/f0 ratio", 18 F0 (in) "Programming input for fCLK/f0 ratio", 19 V- (power) "Negative supply voltage", 20 GND (power) "Analog Ground. Connect to the system ground for +/- supplies or to mid-supply for single supply operation. GND should be well bypassed in single supply applications.", 21 OSC OUT "Connects to crystal or R-C for self-clocked operation.", 22 S1B (in) "Auxiliary input to summing node in B filter. It receives feedback signals in various filter modes.", 23 F3 (in) "Programming input for fCLK/f0 ratio", 24 F1 (in) "Programming input for fCLK/f0 ratio", 25 N/HP/APB (out), 26 BPB (out) "Bandpass outputs", 27 LPB (out) "Lowpass outputs", 28 INB (in) "Filter input"

## MAX266ACPI
designator U?
Switched Capacitor Filter, Pin Strap, Resistor Programmable, 0 to 70 degC, 28-Pin DIP (P28-5); Generic Part Number: MAX266; PartNumber: MAX266ACPI; Filter Sections: 2; Filter Type: Universal; DatasheetVersion: Rev. 0; PackageVersion: Rev. D, 04/2011; PackageReference: P28-5; PackageDescription: 28-Pin Plastic Dual-In-Line, Wide (0.6in) (P28-5), Body 36.83 x 13.975 mm, Pitch 2.54 mm; Supplier 1: Mouser; Supplier Part Number 1: N/A; Filter Characteristic: Programmable; Filter Class: Switched Cap; Order Per Filter Section: 2; Program Method: Pin Strap, Resistor; Mounting Technology: Through Hole; Code_JEDEC: MS011; ComponentLink1Description: Manufacturer URL; ComponentLink1URL: http://www.maximintegrated.com/; ComponentLink2Description: Datasheet; ComponentLink2URL: http://datasheets.maximintegrated.com/en/ds/MAX265-MAX266.pdf; ComponentLink3Description: Package Specification; ComponentLink3URL: http://pdfserv.maximintegrated.com/package_dwgs/21-0044.PDF
footprint MAXM-P28-5 (DIP, 28-Leads, Body 36.83x13.975mm, Pitch 2.54mm)
pins: 1 LPA (out) "Lowpass outputs", 2 BPA (out) "Bandpass outputs", 3 OA OUTA (out) "Output of op amps A", 4 N/HP/APA (out), 5 OA INA (in) "Inverting input of op amps A", 6 INA (in) "Filter input", 7 S1A (in) "Auxiliary input to summing node in A filter. It receives feedback signals in various filter modes.", 8 SA/B (in) "When SA/B is high, one filter summing node is tied to the LP output. When SA/B is low, the summing node is grounded. See Mode diagrams (Figures 5-20) for SA/B connections.", 9 CLK OUT "Clock Output for crystal and R-C oscillator operation.", 10 V+ (power) "Positive supply voltage", 11 F5 (in) "Programming input for fCLK/f0 ratio", 12 F4 (in) "Programming input for fCLK/f0 ratio", 13 CLKA "Input to the oscillator and clock input to section A. This clock is internally divided by 2.", 14 CLKB "Clock input to filter B. This clock is internally divided by 2.", 15 OA INB (in) "Inverting input of op amps B", 16 OA OUTB (out) "Output of op amps B", 17 F2 (in) "Programming input for fCLK/f0 ratio", 18 F0 (in) "Programming input for fCLK/f0 ratio", 19 V- (power) "Negative supply voltage", 20 GND (power) "Analog Ground. Connect to the system ground for +/- supplies or to mid-supply for single supply operation. GND should be well bypassed in single supply applications.", 21 OSC OUT "Connects to crystal or R-C for self-clocked operation.", 22 S1B (in) "Auxiliary input to summing node in B filter. It receives feedback signals in various filter modes.", 23 F3 (in) "Programming input for fCLK/f0 ratio", 24 F1 (in) "Programming input for fCLK/f0 ratio", 25 N/HP/APB (out), 26 BPB (out) "Bandpass outputs", 27 LPB (out) "Lowpass outputs", 28 INB (in) "Filter input"

## MAX266ACPI+
designator U?
Switched Capacitor Filter, Pin Strap, Resistor Programmable, 0 to 70 degC, 28-Pin DIP (P28+5), Pb-Free; Generic Part Number: MAX266; PartNumber: MAX266ACPI+; Filter Sections: 2; Filter Type: Universal; DatasheetVersion: Rev. 0; PackageVersion: Rev. D, 04/2011; PackageReference: P28+5; PackageDescription: 28-Pin Plastic Dual-In-Line, Wide (0.6in) (P28+5), Body 36.83 x 13.975 mm, Pitch 2.54 mm; Supplier 1: Mouser; Supplier Part Number 1: N/A; Filter Characteristic: Programmable; Filter Class: Switched Cap; Order Per Filter Section: 2; Program Method: Pin Strap, Resistor; RoHS: Pb-Free; Mounting Technology: Through Hole; Code_JEDEC: MSO11; ComponentLink1Description: Manufacturer URL; ComponentLink1URL: http://www.maximintegrated.com/; ComponentLink2Description: Datasheet; ComponentLink2URL: http://datasheets.maximintegrated.com/en/ds/MAX265-MAX266.pdf; ComponentLink3Description: Package Specification; ComponentLink3URL: http://pdfserv.maximintegrated.com/package_dwgs/21-0044.PDF
footprint MAXM-P28+5 (DIP, 28-Leads, Body 36.83x13.975mm, Pitch 2.54mm)
pins: 1 LPA (out) "Lowpass outputs", 2 BPA (out) "Bandpass outputs", 3 OA OUTA (out) "Output of op amps A", 4 N/HP/APA (out), 5 OA INA (in) "Inverting input of op amps A", 6 INA (in) "Filter input", 7 S1A (in) "Auxiliary input to summing node in A filter. It receives feedback signals in various filter modes.", 8 SA/B (in) "When SA/B is high, one filter summing node is tied to the LP output. When SA/B is low, the summing node is grounded. See Mode diagrams (Figures 5-20) for SA/B connections.", 9 CLK OUT "Clock Output for crystal and R-C oscillator operation.", 10 V+ (power) "Positive supply voltage", 11 F5 (in) "Programming input for fCLK/f0 ratio", 12 F4 (in) "Programming input for fCLK/f0 ratio", 13 CLKA "Input to the oscillator and clock input to section A. This clock is internally divided by 2.", 14 CLKB "Clock input to filter B. This clock is internally divided by 2.", 15 OA INB (in) "Inverting input of op amps B", 16 OA OUTB (out) "Output of op amps B", 17 F2 (in) "Programming input for fCLK/f0 ratio", 18 F0 (in) "Programming input for fCLK/f0 ratio", 19 V- (power) "Negative supply voltage", 20 GND (power) "Analog Ground. Connect to the system ground for +/- supplies or to mid-supply for single supply operation. GND should be well bypassed in single supply applications.", 21 OSC OUT "Connects to crystal or R-C for self-clocked operation.", 22 S1B (in) "Auxiliary input to summing node in B filter. It receives feedback signals in various filter modes.", 23 F3 (in) "Programming input for fCLK/f0 ratio", 24 F1 (in) "Programming input for fCLK/f0 ratio", 25 N/HP/APB (out), 26 BPB (out) "Bandpass outputs", 27 LPB (out) "Lowpass outputs", 28 INB (in) "Filter input"